# EAGLE library part 5V_SWITCHING_POWER_DEV (library blizzard_common_0)
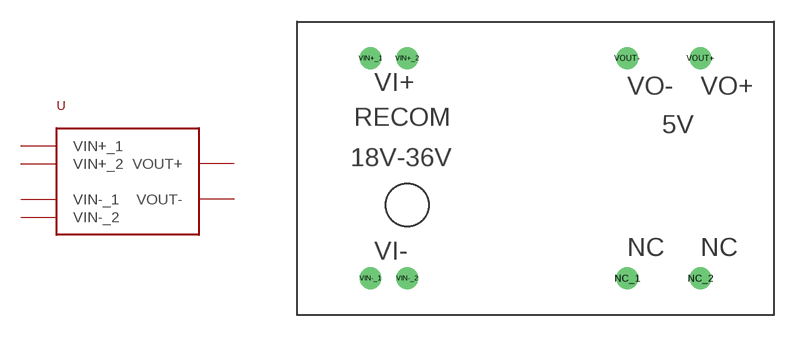
[diagram p2: symbol with the pads of 5V_SWITCHING_POWER_PKG; footprint 5V_SWITCHING_POWER_PKG]

Designator prefix U

## 5V_SWITCHING_POWER_DEV  [5V_SWITCHING_POWER_PKG]
VIN+_1  VIN+_1
VIN+_2  VIN+_2
VIN-_1  VIN-_1
VIN-_2  VIN-_2
VOUT+  VOUT+
VOUT-  VOUT-

## Footprint 5V_SWITCHING_POWER_PKG (pad centres in mm)
drill 1: NC_1 17.78,-15.24; NC_2 22.86,-15.24; VIN+_1 0,0; VIN+_2 2.54,0; VIN-_1 0,-15.24; VIN-_2 2.54,-15.24; VOUT+ 22.86,0; VOUT- 17.78,0